# EAGLE library part 64800811622 (library Wuerth_Elektronik_eiCan_Wire_to_Board_Connectors v1.2)
WR-WTB 1.50mm Male Vertical Shrouded Header, 8 Pins
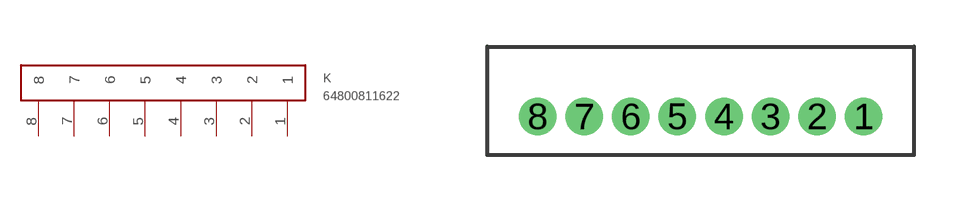
[diagram p74: symbol with the pads of 64800811622; footprint 64800811622]

Designator prefix K

## 64800811622  [64800811622]
1  1
2  2
3  3
4  4
5  5
6  6
7  7
8  8

## Footprint 64800811622 (pad centres in mm)
WR-WTB 1.50mm Male Vertical Shrouded Header, 8 Pins
drill 0.7 round: 1 0.75,0; 2 -0.75,0; 3 -2.25,0; 4 -3.75,0; 5 -5.25,0; 6 -6.75,0; 7 -8.25,0; 8 -9.75,0